# Altium schematic symbol library Sound Producers.SchLib: 1 symbol
Pins are listed as number, name and electrical type; pins without a type are passive.

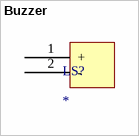
[diagram p0: symbol Buzzer]

## Buzzer
designator LS?
PK-21N30PQ
footprint Buzzer
pins: 1 +, 2 -